# Altium footprint library Main.PcbLib: 36 footprints (part 2 of 3)
Each footprint in its own frame and in the unit in brackets; x right, y up, seen from the top. Pads: shape width x height; smd on the part's side, far side on the other; paste and mask are expansions set on the pad; w line width, h text height; cw(c..) or ccw(c..) is an arc to the next point about the centre after c.
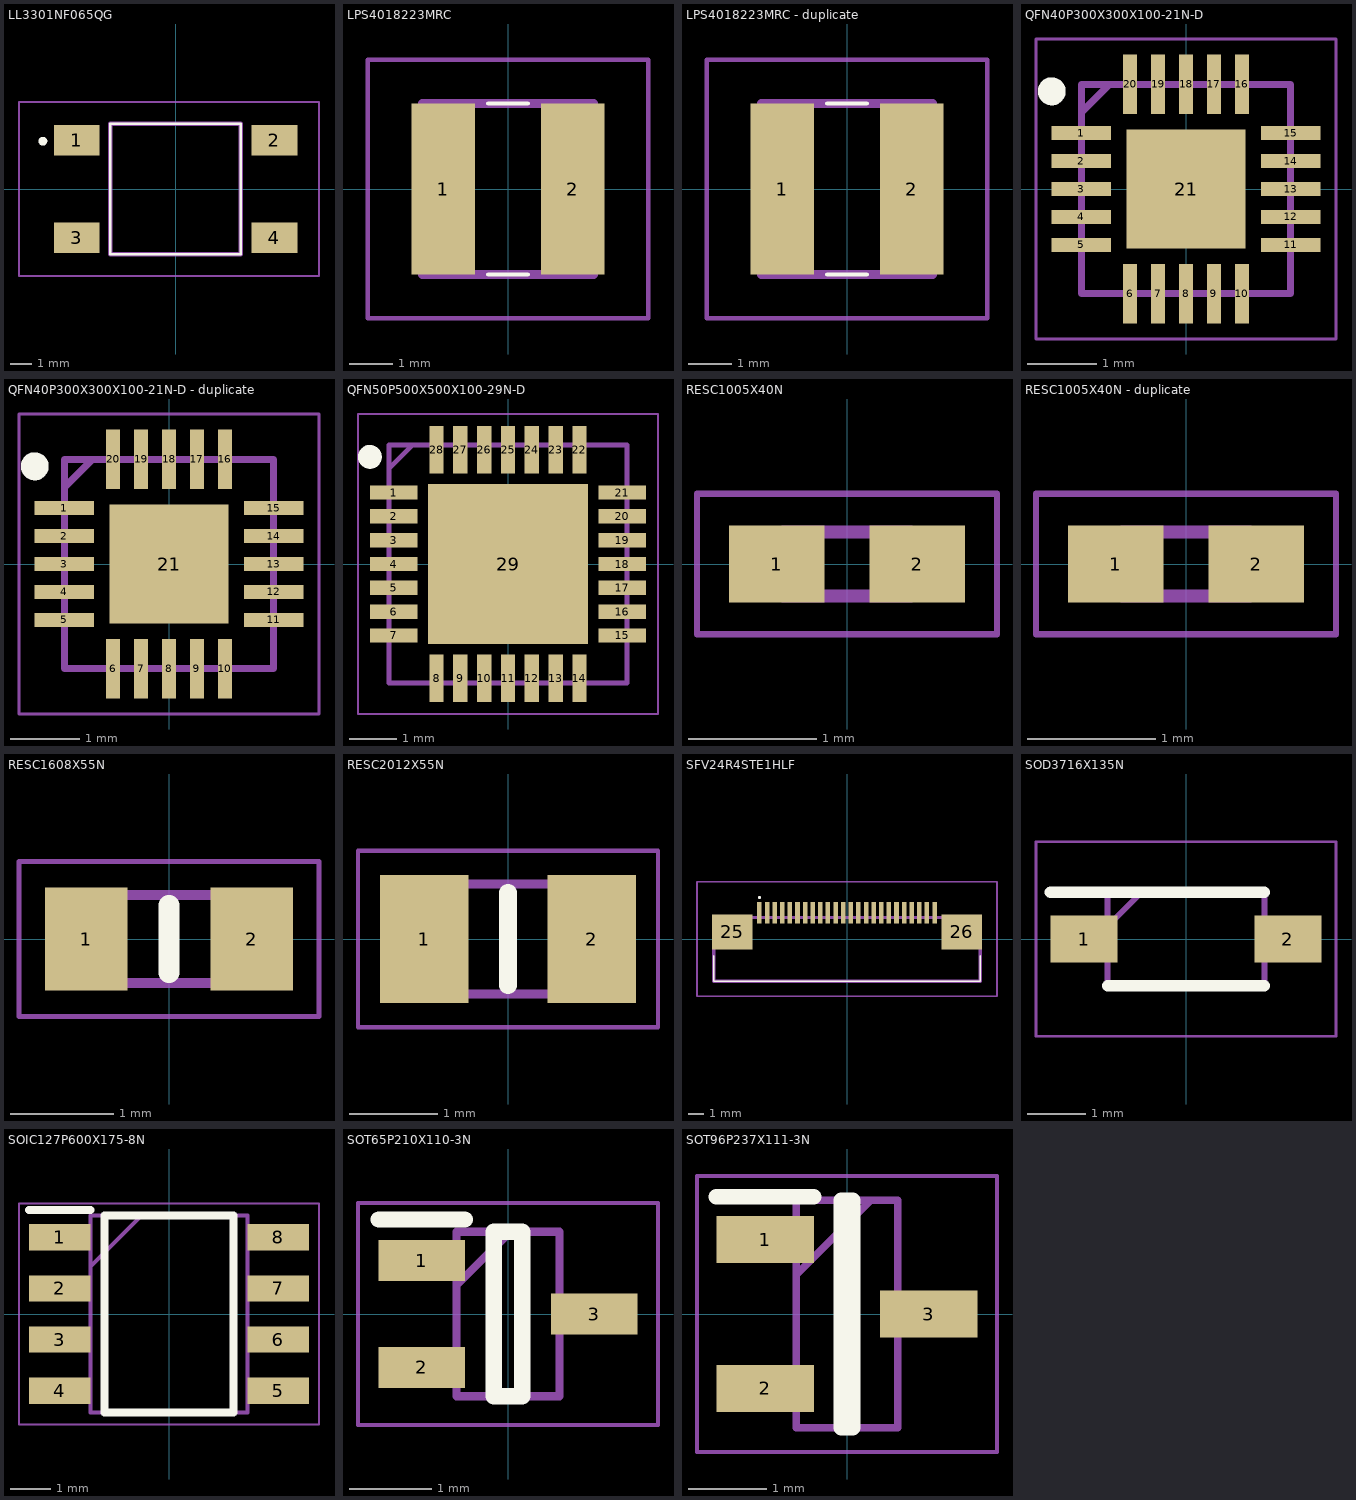
[diagram p1: the footprints below, top view; thin cyan lines are the x and y axes]

## LL3301NF065QG [mm]
pads (4):
  rect 2.1x1.4 smd: 1(-4.55,2.25) 2(4.55,2.25) 3(-4.55,-2.25) 4(4.55,-2.25)
Top Overlay:
  lines w0.1: -3,-3 -3,3 3,3 3,-3 -3,-3
  lines w0.2: -6.1,2.1 cw(c-6.1,2.2) -6.1,2.3 cw(c-6.1,2.2) -6.1,2.1
Mechanical 13:
  lines w0.2: -3,-3 -3,3 3,3 3,-3 -3,-3
Mechanical 15:
  lines w0.1: -7.2,-4 -7.2,4 6.6,4 6.6,-4 -7.2,-4

## LPS4018223MRC [mm]
pads (2):
  rect 1.45x3.89 smd: 1(-1.475,0) 2(1.475,0)
Top Overlay:
  lines w0.1: -0.45,-1.95 0.45,-1.95 ; -0.45,1.95 0.45,1.95
Mechanical 13:
  lines w0.2: -1.95,-1.95 -1.95,1.95 1.95,1.95 1.95,-1.95 -1.95,-1.95
Mechanical 15:
  lines w0.1: -3.2,-2.95 -3.2,2.95 3.2,2.95 3.2,-2.95 -3.2,-2.95
3D body "LPS4018-223MRC.stp": height 1.9, standoff 0, extent -2.055,-1.95 2.055,1.95

## LPS4018223MRC - duplicate [mm]
pads (2):
  rect 1.45x3.89 smd: 1(-1.475,0) 2(1.475,0)
Top Overlay:
  lines w0.1: -0.45,-1.95 0.45,-1.95 ; -0.45,1.95 0.45,1.95
Mechanical 13:
  lines w0.2: -1.95,-1.95 1.95,-1.95 1.95,1.95 -1.95,1.95 -1.95,-1.95
Mechanical 15:
  lines w0.1: -3.2,-2.95 3.2,-2.95 3.2,2.95 -3.2,2.95 -3.2,-2.95
3D body "LPS4018-223MRC.stp": height 1.9, standoff 0, extent -2.055,-1.95 2.055,1.95

## PCBComponent_1 [mm]

## QFN40P300X300X100-21N-D [mm]
pads (21):
  rect 0.85x0.2 smd: 1(-1.5,0.8) 2(-1.5,0.4) 3(-1.5,0) 4(-1.5,-0.4) 5(-1.5,-0.8) 11(1.5,-0.8) 12(1.5,-0.4) 13(1.5,0) 14(1.5,0.4) 15(1.5,0.8)
  rect 0.2x0.85 smd: 6(-0.8,-1.5) 7(-0.4,-1.5) 8(0,-1.5) 9(0.4,-1.5) 10(0.8,-1.5) 16(0.8,1.5) 17(0.4,1.5) 18(0,1.5) 19(-0.4,1.5) 20(-0.8,1.5)
  rect 1.7x1.7 smd: 21(0,0)
Top Overlay:
  circle w0.2: c-1.925,1.4 r0.1
Mechanical 13:
  lines w0.1: -1.5,1.1 -1.1,1.5 ; -1.5,-1.5 1.5,-1.5 1.5,1.5 -1.5,1.5 -1.5,-1.5
Mechanical 15:
  lines w0.05: -2.15,-2.15 2.15,-2.15 2.15,2.15 -2.15,2.15 -2.15,-2.15
3D body "SPV1050TTR.stp": height 1, standoff 0, extent -1.55,-1.55 1.55,1.55

## QFN40P300X300X100-21N-D - duplicate [mm]
pads (21):
  rect 0.85x0.2 smd: 1(-1.5,0.8) 2(-1.5,0.4) 3(-1.5,0) 4(-1.5,-0.4) 5(-1.5,-0.8) 11(1.5,-0.8) 12(1.5,-0.4) 13(1.5,0) 14(1.5,0.4) 15(1.5,0.8)
  rect 0.2x0.85 smd: 6(-0.8,-1.5) 7(-0.4,-1.5) 8(0,-1.5) 9(0.4,-1.5) 10(0.8,-1.5) 16(0.8,1.5) 17(0.4,1.5) 18(0,1.5) 19(-0.4,1.5) 20(-0.8,1.5)
  rect 1.7x1.7 smd: 21(0,0)
Top Overlay:
  circle w0.2: c-1.925,1.4 r0.1
Mechanical 13:
  lines w0.1: -1.5,1.1 -1.1,1.5 ; -1.5,-1.5 -1.5,1.5 1.5,1.5 1.5,-1.5 -1.5,-1.5
Mechanical 15:
  lines w0.05: -2.15,-2.15 -2.15,2.15 2.15,2.15 2.15,-2.15 -2.15,-2.15
3D body "SPV1050TTR.stp": height 1, standoff 0, extent -1.55,-1.55 1.55,1.55

## QFN50P500X500X100-29N-D [mm]
pads (29):
  rect 1x0.3 smd: 1(-2.4,1.5) 2(-2.4,1) 3(-2.4,0.5) 4(-2.4,0) 5(-2.4,-0.5) 6(-2.4,-1) 7(-2.4,-1.5) 15(2.4,-1.5) 16(2.4,-1) 17(2.4,-0.5) 18(2.4,0) 19(2.4,0.5) 20(2.4,1) 21(2.4,1.5)
  rect 0.3x1 smd: 8(-1.5,-2.4) 9(-1,-2.4) 10(-0.5,-2.4) 11(0,-2.4) 12(0.5,-2.4) 13(1,-2.4) 14(1.5,-2.4) 22(1.5,2.4) 23(1,2.4) 24(0.5,2.4) 25(0,2.4) 26(-0.5,2.4) 27(-1,2.4) 28(-1.5,2.4)
  rect 3.35x3.35 smd: 29(0,0)
Top Overlay:
  circle w0.25: c-2.9,2.25 r0.125
Mechanical 13:
  lines w0.1: -2.5,2 -2,2.5 ; -2.5,-2.5 2.5,-2.5 2.5,2.5 -2.5,2.5 -2.5,-2.5
Mechanical 15:
  lines w0.05: -3.15,-3.15 3.15,-3.15 3.15,3.15 -3.15,3.15 -3.15,-3.15
3D body "CP2102-GMR.stp": height 1, standoff 0, extent -2.55,-2.55 2.55,2.55

## RESC1005X40N [mm]
pads (2):
  rect 0.75x0.6 smd: 1(-0.55,0) 2(0.55,0)
Mechanical 13:
  lines w0.1: -0.5,-0.25 0.5,-0.25 0.5,0.25 -0.5,0.25 -0.5,-0.25
Mechanical 15:
  lines w0.05: -1.175,-0.55 1.175,-0.55 1.175,0.55 -1.175,0.55 -1.175,-0.55
3D body "CRCW0402453KFKED.stp": height 0.4, standoff 0, extent -0.5,-0.25 0.5,0.25

## RESC1005X40N - duplicate [mm]
pads (2):
  rect 0.75x0.6 smd: 1(-0.55,0) 2(0.55,0)
Mechanical 13:
  lines w0.1: -0.5,-0.25 -0.5,0.25 0.5,0.25 0.5,-0.25 -0.5,-0.25
Mechanical 15:
  lines w0.05: -1.175,-0.55 -1.175,0.55 1.175,0.55 1.175,-0.55 -1.175,-0.55
3D body "CRCW0402453KFKED.stp": height 0.4, standoff 0, extent -0.5,-0.25 0.5,0.25

## RESC1608X55N [mm]
pads (2):
  rect 0.8x1 smd: 1(-0.8,0) 2(0.8,0)
Top Overlay:
  lines w0.2: 0,-0.325 0,0.325
Mechanical 13:
  lines w0.1: -0.775,-0.425 0.775,-0.425 0.775,0.425 -0.775,0.425 -0.775,-0.425
Mechanical 15:
  lines w0.05: -1.45,-0.75 1.45,-0.75 1.45,0.75 -1.45,0.75 -1.45,-0.75
3D body "MCT06030C9101FP500.stp": height 0.55, standoff 0, extent -0.775,-0.425 0.775,0.425

## RESC2012X55N [mm]
pads (2):
  rect 1x1.45 smd: 1(-0.95,0) 2(0.95,0)
Top Overlay:
  lines w0.2: 0,-0.525 0,0.525
Mechanical 13:
  lines w0.1: -1,-0.625 1,-0.625 1,0.625 -1,0.625 -1,-0.625
Mechanical 15:
  lines w0.05: -1.7,-1 1.7,-1 1.7,1 -1.7,1 -1.7,-1
3D body "TNPU08051K00AWEN00.stp": height 0.55, standoff 0, extent -1,-0.625 1,0.625

## SFV24R4STE1HLF [mm]
pads (26):
  rect 0.3x1.4 smd: 1(-5.75,1.725) 2(-5.25,1.725) 3(-4.75,1.725) 4(-4.25,1.725) 5(-3.75,1.725) 6(-3.25,1.725) 7(-2.75,1.725) 8(-2.25,1.725) 9(-1.75,1.725) 10(-1.25,1.725) 11(-0.75,1.725) 12(-0.25,1.725) 13(0.25,1.725) 14(0.75,1.725) 15(1.25,1.725) 16(1.75,1.725) 17(2.25,1.725) 18(2.75,1.725) 19(3.25,1.725) 20(3.75,1.725) 21(4.25,1.725) 22(4.75,1.725) 23(5.25,1.725) 24(5.75,1.725)
  rect 2.65x2.3 smd: 25(-7.525,0.475) 26(7.525,0.475)
Top Overlay:
  lines w0.1: -8.75,-1.115 -8.75,-2.775 8.75,-2.775 8.75,-1.115 ; -5.8,2.725 cw(c-5.75,2.725) -5.7,2.725 cw(c-5.75,2.725) -5.8,2.725
Mechanical 13:
  lines w0.2: -8.75,-2.775 8.75,-2.775 8.75,1.425 -8.75,1.425 -8.75,-2.775
Mechanical 15:
  lines w0.1: -9.85,-3.775 9.85,-3.775 9.85,3.775 -9.85,3.775 -9.85,-3.775
3D body "SFV24R-4STE1HLF.stp": height 2.1, standoff 0, extent -8.75,-2.775 8.75,2.395

## SOD3716X135N [mm]
pads (2):
  rect 1.15x0.8 smd: 1(-1.75,0) 2(1.75,0)
Top Overlay:
  lines w0.2: -2.325,0.8 1.345,0.8 ; -1.345,-0.8 1.345,-0.8
Mechanical 13:
  lines w0.1: -1.345,0.225 -0.77,0.8 ; -1.345,-0.8 1.345,-0.8 1.345,0.8 -1.345,0.8 -1.345,-0.8
Mechanical 15:
  lines w0.05: -2.575,-1.67 2.575,-1.67 2.575,1.67 -2.575,1.67 -2.575,-1.67
3D body "MBR0530T1G.stp": height 1.35, standoff 0, extent -1.855,-0.8 1.855,0.8

## SOIC127P600X175-8N [mm]
pads (8):
  rect 1.525x0.65 smd: 1(-2.712,1.905) 2(-2.712,0.635) 3(-2.712,-0.635) 4(-2.712,-1.905) 5(2.712,-1.905) 6(2.712,-0.635) 7(2.712,0.635) 8(2.712,1.905)
Top Overlay:
  lines w0.2: -3.475,2.58 -1.95,2.58 ; -1.6,-2.45 1.6,-2.45 1.6,2.45 -1.6,2.45 -1.6,-2.45
Mechanical 13:
  lines w0.1: -1.95,1.18 -0.68,2.45 ; -1.95,-2.45 1.95,-2.45 1.95,2.45 -1.95,2.45 -1.95,-2.45
Mechanical 15:
  lines w0.05: -3.725,-2.75 3.725,-2.75 3.725,2.75 -3.725,2.75 -3.725,-2.75
3D body "NE555DR.stp": height 1.75, standoff 0, extent -3,-2.45 3,2.45

## SOT65P210X110-3N [mm]
pads (3):
  rect 1.05x0.5 smd: 1(-1.05,0.65) 2(-1.05,-0.65) 3(1.05,0)
Top Overlay:
  lines w0.2: -1.575,1.15 -0.525,1.15 ; -0.175,-1 0.175,-1 0.175,1 -0.175,1 -0.175,-1
Mechanical 13:
  lines w0.1: -0.625,0.35 0.025,1 ; -0.625,-1 0.625,-1 0.625,1 -0.625,1 -0.625,-1
Mechanical 15:
  lines w0.05: -1.825,-1.35 1.825,-1.35 1.825,1.35 -1.825,1.35 -1.825,-1.35
3D body "Si1308EDL-T1-GE3.stp": height 1.1, standoff 0, extent -1.05,-1 1.05,1

## SOT96P237X111-3N [mm]
pads (3):
  rect 1.25x0.6 smd: 1(-1.05,0.955) 2(-1.05,-0.955) 3(1.05,0)
Top Overlay:
  lines w0.2: -1.675,1.505 -0.425,1.505 ; -0.075,-1.46 0.075,-1.46 0.075,1.46 -0.075,1.46 -0.075,-1.46
Mechanical 13:
  lines w0.1: -0.65,0.505 0.305,1.46 ; -0.65,-1.46 0.65,-1.46 0.65,1.46 -0.65,1.46 -0.65,-1.46
Mechanical 15:
  lines w0.05: -1.925,-1.77 1.925,-1.77 1.925,1.77 -1.925,1.77 -1.925,-1.77
3D body "BC858BLT3G.stp": height 1.11, standoff 0, extent -1.185,-1.46 1.185,1.46